# Altium footprint library PcbLib1.PcbLib: 18 footprints (part 2 of 2)
Each footprint in its own frame and in the unit in brackets; x right, y up, seen from the top. Pads: shape width x height; smd on the part's side, far side on the other; paste and mask are expansions set on the pad; w line width, h text height; cw(c..) or ccw(c..) is an arc to the next point about the centre after c.
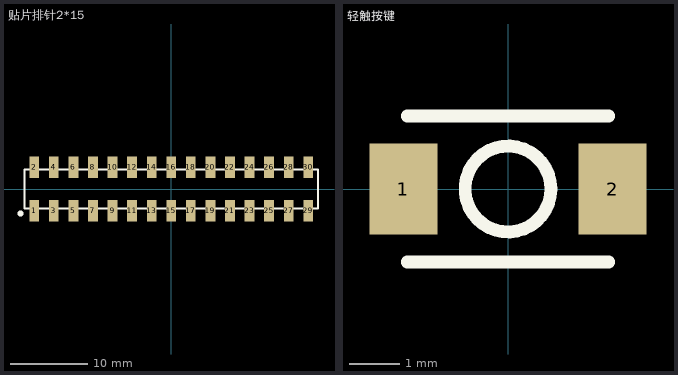
[diagram p1: the footprints below, top view; thin cyan lines are the x and y axes]

## 贴片排针2*15 [mm]
pads (30):
  rect 1.27x2.8 smd: 1(-17.78,-2.8) 2(-17.78,2.8) 3(-15.24,-2.8) 4(-15.24,2.8) 5(-12.7,-2.8) 6(-12.7,2.8) 7(-10.16,-2.8) 8(-10.16,2.8) 9(-7.62,-2.8) 10(-7.62,2.8) 11(-5.08,-2.8) 12(-5.08,2.8) 13(-2.54,-2.8) 14(-2.54,2.8) 15(0,-2.8) 16(0,2.8) 17(2.54,-2.8) 18(2.54,2.8) 19(5.08,-2.8) 20(5.08,2.8) 21(7.62,-2.8) 22(7.62,2.8) 23(10.16,-2.8) 24(10.16,2.8) 25(12.7,-2.8) 26(12.7,2.8) 27(15.24,-2.8) 28(15.24,2.8) 29(17.78,-2.8) 30(17.78,2.8)
Top Overlay:
  circle w0.4: c-19.558,-3.175 r0.2
  lines w0.254: -19.05,-2.54 -19.05,2.54 19.05,2.54 19.05,-2.54 -19.05,-2.54

## 轻触按键 [mm] "TS-1088"
pads (2):
  rect 1.35x1.8 smd: 1(-2.075,0) 2(2.075,0)
Top Overlay:
  circle w0.254: c0,0 r0.852
  lines w0.254: -2,-1.45 2,-1.45 ; -2,1.45 2,1.45